# Altium footprint library VQFN-48-TPS65217.PcbLib: 1 footprints
Each footprint in its own frame and in the unit in brackets; x right, y up, seen from the top. Pads: shape width x height; smd on the part's side, far side on the other; paste and mask are expansions set on the pad; w line width, h text height; cw(c..) or ccw(c..) is an arc to the next point about the centre after c.
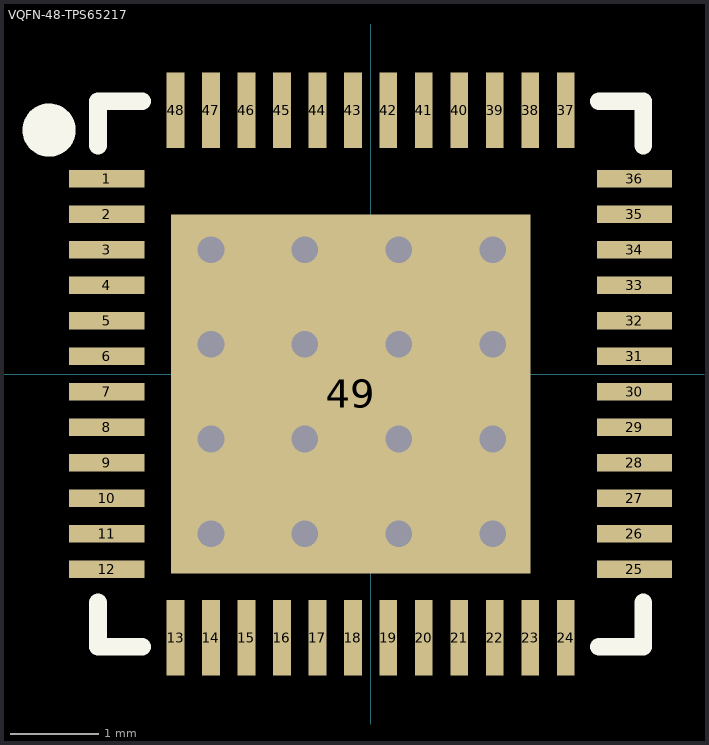
[diagram p0: the footprint, top view; thin cyan lines are the x and y axes]

## VQFN-48-TPS65217 [mm]
pads (49):
  rect 0.85x0.2 smd mask+0.05: 1(-2.975,2.2) 2(-2.975,1.8) 3(-2.975,1.4) 4(-2.975,1) 5(-2.975,0.6) 6(-2.975,0.2) 7(-2.975,-0.2) 8(-2.975,-0.6) 9(-2.975,-1) 10(-2.975,-1.4) 11(-2.975,-1.8) 12(-2.975,-2.2) 25(2.975,-2.2) 26(2.975,-1.8) 27(2.975,-1.4) 28(2.975,-1) 29(2.975,-0.6) 30(2.975,-0.2) 31(2.975,0.2) 32(2.975,0.6) 33(2.975,1) 34(2.975,1.4) 35(2.975,1.8) 36(2.975,2.2)
  rect 0.2x0.85 smd mask+0.05: 13(-2.2,-2.975) 14(-1.8,-2.975) 15(-1.4,-2.975) 16(-1,-2.975) 17(-0.6,-2.975) 18(-0.2,-2.975) 19(0.2,-2.975) 20(0.6,-2.975) 21(1,-2.975) 22(1.4,-2.975) 23(1.8,-2.975) 24(2.2,-2.975) 37(2.2,2.975) 38(1.8,2.975) 39(1.4,2.975) 40(1,2.975) 41(0.6,2.975) 42(0.2,2.975) 43(-0.2,2.975) 44(-0.6,2.975) 45(-1,2.975) 46(-1.4,2.975) 47(-1.8,2.975) 48(-2.2,2.975)
  rect 4.05x4.05 smd mask+0.075: 49(-0.225,-0.225)
via -1.8,1.4 diameter 0.6 hole 0.3
via -1.8,-1.8 diameter 0.6 hole 0.3
via 1.375,1.4 diameter 0.6 hole 0.3
via 1.375,-1.8 diameter 0.6 hole 0.3
via -1.8,0.333 diameter 0.6 hole 0.3
via -1.8,-0.733 diameter 0.6 hole 0.3
via 1.375,0.333 diameter 0.6 hole 0.3
via 1.375,-0.733 diameter 0.6 hole 0.3
via 0.317,1.4 diameter 0.6 hole 0.3
via 0.317,-1.8 diameter 0.6 hole 0.3
via 0.317,0.333 diameter 0.6 hole 0.3
via 0.317,-0.733 diameter 0.6 hole 0.3
via -0.742,1.4 diameter 0.6 hole 0.3
via -0.742,-1.8 diameter 0.6 hole 0.3
via -0.742,0.333 diameter 0.6 hole 0.3
via -0.742,-0.733 diameter 0.6 hole 0.3
Top Overlay:
  circle w0.3: c-3.625,2.75 r0.15
  lines w0.2: -3.075,-2.575 -3.075,-3.075 -2.575,-3.075 ; -3.075,2.575 -3.075,3.075 -2.575,3.075 ; 2.575,-3.075 3.075,-3.075 3.075,-2.575 ; 2.575,3.075 3.075,3.075 3.075,2.575